# EAGLE library part SSW-125-02-S-Q (library con-samtec)
THROUGH-HOLE .025" SQ POST SOCKET Source: Samtec SSW.pdf
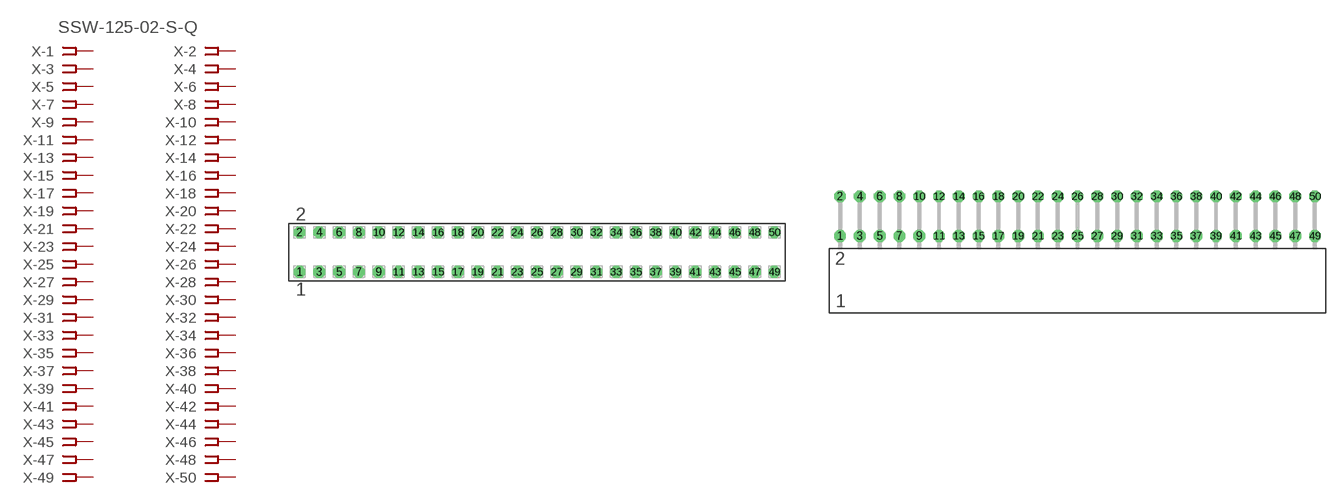
[diagram p123: symbol with the pads of SSW-125-02-S-Q; footprints SSW-125-02-S-Q, SSW-125-02-S-Q-RA]

Designator prefix X; gates -1=FPINV -2=FPIN -3=FPIN -4=FPIN -5=FPIN -6=FPIN -7=FPIN -8=FPIN -9=FPIN -10=FPIN -11=FPIN -12=FPIN -13=FPIN -14=FPIN -15=FPIN -16=FPIN -17=FPIN -18=FPIN -19=FPIN -20=FPIN -21=FPIN -22=FPIN -23=FPIN -24=FPIN -25=FPIN -26=FPIN -27=FPIN -28=FPIN -29=FPIN -30=FPIN -31=FPIN -32=FPIN -33=FPIN -34=FPIN -35=FPIN -36=FPIN -37=FPIN -38=FPIN -39=FPIN -40=FPIN -41=FPIN -42=FPIN -43=FPIN -44=FPIN -45=FPIN -46=FPIN -47=FPIN -48=FPIN -49=FPIN -50=FPIN

## SSW-125-02-S-Q (MPN: SSW-125-02-S-Q; OC_FARNELL: unknown; OC_NEWARK: 82P9297)  [SSW-125-02-S-Q]
1  -1:1  pas
2  -2:1  pas
3  -3:1  pas
4  -4:1  pas
5  -5:1  pas
6  -6:1  pas
7  -7:1  pas
8  -8:1  pas
9  -9:1  pas
10  -10:1  pas
11  -11:1  pas
12  -12:1  pas
13  -13:1  pas
14  -14:1  pas
15  -15:1  pas
16  -16:1  pas
17  -17:1  pas
18  -18:1  pas
19  -19:1  pas
20  -20:1  pas
21  -21:1  pas
22  -22:1  pas
23  -23:1  pas
24  -24:1  pas
25  -25:1  pas
26  -26:1  pas
27  -27:1  pas
28  -28:1  pas
29  -29:1  pas
30  -30:1  pas
31  -31:1  pas
32  -32:1  pas
33  -33:1  pas
34  -34:1  pas
35  -35:1  pas
36  -36:1  pas
37  -37:1  pas
38  -38:1  pas
39  -39:1  pas
40  -40:1  pas
41  -41:1  pas
42  -42:1  pas
43  -43:1  pas
44  -44:1  pas
45  -45:1  pas
46  -46:1  pas
47  -47:1  pas
48  -48:1  pas
49  -49:1  pas
50  -50:1  pas

## SSW-125-02-S-QRA (MPN: SSW-125-02-S-Q-RA; OC_FARNELL: unknown; OC_NEWARK: 82P9298)  [SSW-125-02-S-Q-RA]
Pads as for SSW-125-02-S-Q

## Footprint SSW-125-02-S-Q (pad centres in mm)
THROUGH-HOLE .025" SQ POST SOCKET Source: Samtec SSW.pdf
drill 1 pad 1.5 octagon: 1 -30.48,-2.54; 2 -30.48,2.54; 3 -27.94,-2.54; 4 -27.94,2.54; 5 -25.4,-2.54; 6 -25.4,2.54; 7 -22.86,-2.54; 8 -22.86,2.54; 9 -20.32,-2.54; 10 -20.32,2.54; 11 -17.78,-2.54; 12 -17.78,2.54; 13 -15.24,-2.54; 14 -15.24,2.54; 15 -12.7,-2.54; 16 -12.7,2.54; 17 -10.16,-2.54; 18 -10.16,2.54; 19 -7.62,-2.54; 20 -7.62,2.54; 21 -5.08,-2.54; 22 -5.08,2.54; 23 -2.54,-2.54; 24 -2.54,2.54; 25 0,-2.54; 26 0,2.54; 27 2.54,-2.54; 28 2.54,2.54; 29 5.08,-2.54; 30 5.08,2.54; 31 7.62,-2.54; 32 7.62,2.54; 33 10.16,-2.54; 34 10.16,2.54; 35 12.7,-2.54; 36 12.7,2.54; 37 15.24,-2.54; 38 15.24,2.54; 39 17.78,-2.54; 40 17.78,2.54; 41 20.32,-2.54; 42 20.32,2.54; 43 22.86,-2.54; 44 22.86,2.54; 45 25.4,-2.54; 46 25.4,2.54; 47 27.94,-2.54; 48 27.94,2.54; 49 30.48,-2.54; 50 30.48,2.54

## Footprint SSW-125-02-S-Q-RA (pad centres in mm)
THROUGH-HOLE .025" SQ POST SOCKET Source: Samtec SSW.pdf
drill 1 pad 1.5 octagon: 1 -30.48,1.524; 2 -30.48,6.604; 3 -27.94,1.524; 4 -27.94,6.604; 5 -25.4,1.524; 6 -25.4,6.604; 7 -22.86,1.524; 8 -22.86,6.604; 9 -20.32,1.524; 10 -20.32,6.604; 11 -17.78,1.524; 12 -17.78,6.604; 13 -15.24,1.524; 14 -15.24,6.604; 15 -12.7,1.524; 16 -12.7,6.604; 17 -10.16,1.524; 18 -10.16,6.604; 19 -7.62,1.524; 20 -7.62,6.604; 21 -5.08,1.524; 22 -5.08,6.604; 23 -2.54,1.524; 24 -2.54,6.604; 25 0,1.524; 26 0,6.604; 27 2.54,1.524; 28 2.54,6.604; 29 5.08,1.524; 30 5.08,6.604; 31 7.62,1.524; 32 7.62,6.604; 33 10.16,1.524; 34 10.16,6.604; 35 12.7,1.524; 36 12.7,6.604; 37 15.24,1.524; 38 15.24,6.604; 39 17.78,1.524; 40 17.78,6.604; 41 20.32,1.524; 42 20.32,6.604; 43 22.86,1.524; 44 22.86,6.604; 45 25.4,1.524; 46 25.4,6.604; 47 27.94,1.524; 48 27.94,6.604; 49 30.48,1.524; 50 30.48,6.604